# Altium integrated library WE-LQS SMD Power Inductor.IntLib: 97 symbols
Pins are listed as number, name and electrical type; pins without a type are passive.

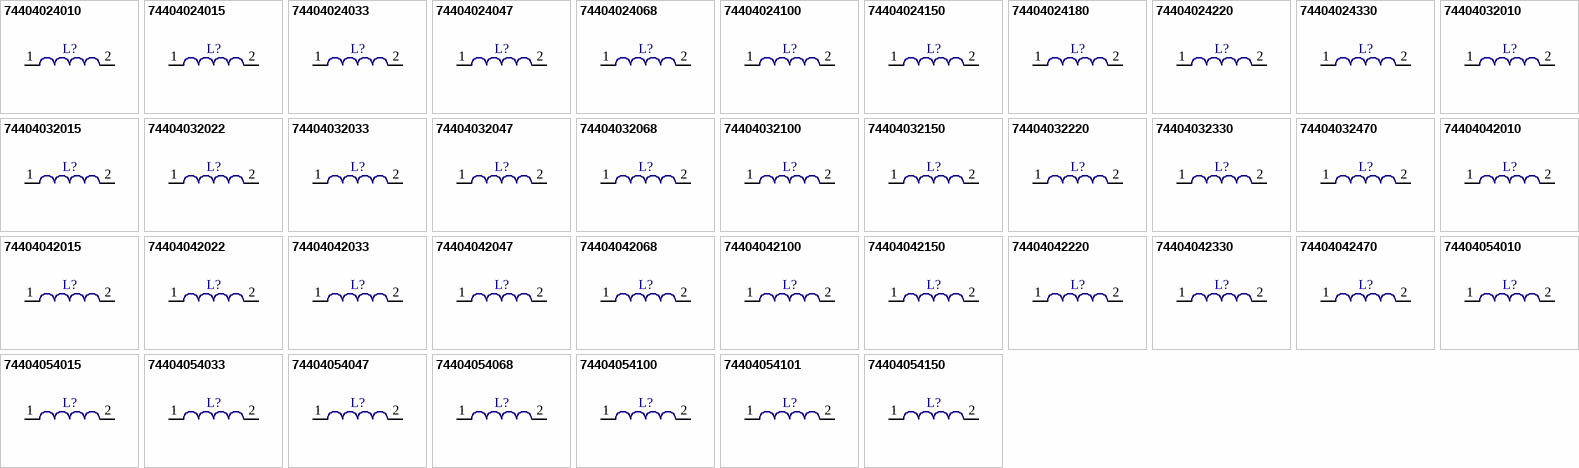
[diagram p0: symbols 74404024010 to 74404054150]

## 74404024010
designator L?
WE-LQS SMD Power Inductor, L=1.0 µH; PartNumber: 74404024010; Inductance: 1.0 µH; PackageReference: WE-LQS 252012; ComponentLink1Description: Manufacturer URL; ComponentLink1URL: http://www.we-online.com; ComponentLink2Description: Datasheet; ComponentLink2URL: http://katalog.we-online.de/pbs/datasheet/74404024010.pdf
footprint WE-LQS 252012 (SMD Power Inductor, 2-Leads, Body 2.5x2.0mm)
pins: 1, 2

## 74404024015
designator L?
WE-LQS SMD Power Inductor, L=1.5 µH; PartNumber: 74404024015; Inductance: 1.5 µH; PackageReference: WE-LQS 252012; ComponentLink1Description: Manufacturer URL; ComponentLink1URL: http://www.we-online.com; ComponentLink2Description: Datasheet; ComponentLink2URL: http://katalog.we-online.de/pbs/datasheet/74404024015.pdf
footprint WE-LQS 252012 (SMD Power Inductor, 2-Leads, Body 2.5x2.0mm)
pins: 1, 2

## 74404024033
designator L?
WE-LQS SMD Power Inductor, L=3.3 µH; PartNumber: 74404024033; Inductance: 3.3 µH; PackageReference: WE-LQS 252012; ComponentLink1Description: Manufacturer URL; ComponentLink1URL: http://www.we-online.com; ComponentLink2Description: Datasheet; ComponentLink2URL: http://katalog.we-online.de/pbs/datasheet/74404024033.pdf
footprint WE-LQS 252012 (SMD Power Inductor, 2-Leads, Body 2.5x2.0mm)
pins: 1, 2

## 74404024047
designator L?
WE-LQS SMD Power Inductor, L=4.7 µH; PartNumber: 74404024047; Inductance: 4.7 µH; PackageReference: WE-LQS 252012; ComponentLink1Description: Manufacturer URL; ComponentLink1URL: http://www.we-online.com; ComponentLink2Description: Datasheet; ComponentLink2URL: http://katalog.we-online.de/pbs/datasheet/74404024047.pdf
footprint WE-LQS 252012 (SMD Power Inductor, 2-Leads, Body 2.5x2.0mm)
pins: 1, 2

## 74404024068
designator L?
WE-LQS SMD Power Inductor, L=6.8 µH; PartNumber: 74404024068; Inductance: 6.8 µH; PackageReference: WE-LQS 252012; ComponentLink1Description: Manufacturer URL; ComponentLink1URL: http://www.we-online.com; ComponentLink2Description: Datasheet; ComponentLink2URL: http://katalog.we-online.de/pbs/datasheet/74404024068.pdf
footprint WE-LQS 252012 (SMD Power Inductor, 2-Leads, Body 2.5x2.0mm)
pins: 1, 2

## 74404024100
designator L?
WE-LQS SMD Power Inductor, L=10.0 µH; PartNumber: 74404024100; Inductance: 10.0 µH; PackageReference: WE-LQS 252012; ComponentLink1Description: Manufacturer URL; ComponentLink1URL: http://www.we-online.com; ComponentLink2Description: Datasheet; ComponentLink2URL: http://katalog.we-online.de/pbs/datasheet/74404024100.pdf
footprint WE-LQS 252012 (SMD Power Inductor, 2-Leads, Body 2.5x2.0mm)
pins: 1, 2

## 74404024150
designator L?
WE-LQS SMD Power Inductor, L=15.0 µH; PartNumber: 74404024150; Inductance: 15.0 µH; PackageReference: WE-LQS 252012; ComponentLink1Description: Manufacturer URL; ComponentLink1URL: http://www.we-online.com; ComponentLink2Description: Datasheet; ComponentLink2URL: http://katalog.we-online.de/pbs/datasheet/74404024150.pdf
footprint WE-LQS 252012 (SMD Power Inductor, 2-Leads, Body 2.5x2.0mm)
pins: 1, 2

## 74404024180
designator L?
WE-LQS SMD Power Inductor, L=18.0 µH; PartNumber: 74404024180; Inductance: 18.0 µH; PackageReference: WE-LQS 252012; ComponentLink1Description: Manufacturer URL; ComponentLink1URL: http://www.we-online.com; ComponentLink2Description: Datasheet; ComponentLink2URL: http://katalog.we-online.de/pbs/datasheet/74404024180.pdf
footprint WE-LQS 252012 (SMD Power Inductor, 2-Leads, Body 2.5x2.0mm)
pins: 1, 2

## 74404024220
designator L?
WE-LQS SMD Power Inductor, L=22.0 µH; PartNumber: 74404024220; Inductance: 22.0 µH; PackageReference: WE-LQS 252012; ComponentLink1Description: Manufacturer URL; ComponentLink1URL: http://www.we-online.com; ComponentLink2Description: Datasheet; ComponentLink2URL: http://katalog.we-online.de/pbs/datasheet/74404024220.pdf
footprint WE-LQS 252012 (SMD Power Inductor, 2-Leads, Body 2.5x2.0mm)
pins: 1, 2

## 74404024330
designator L?
WE-LQS SMD Power Inductor, L=33.0 µH; PartNumber: 74404024330; Inductance: 33.0 µH; PackageReference: WE-LQS 252012; ComponentLink1Description: Manufacturer URL; ComponentLink1URL: http://www.we-online.com; ComponentLink2Description: Datasheet; ComponentLink2URL: http://katalog.we-online.de/pbs/datasheet/74404024330.pdf
footprint WE-LQS 252012 (SMD Power Inductor, 2-Leads, Body 2.5x2.0mm)
pins: 1, 2

## 74404032010
designator L?
WE-LQS SMD Power Inductor, L=1.0 µH; PartNumber: 74404032010; Inductance: 1.0 µH; PackageReference: WE-LQS 3015; ComponentLink1Description: Manufacturer URL; ComponentLink1URL: http://www.we-online.com; ComponentLink2Description: Datasheet; ComponentLink2URL: http://katalog.we-online.de/pbs/datasheet/74404032010.pdf
footprint WE-LQS 3015 (SMD Power Inductor, 2-Leads, Body 3.0x3.0mm)
pins: 1, 2

## 74404032015
designator L?
WE-LQS SMD Power Inductor, L=1.5 µH; PartNumber: 74404032015; Inductance: 1.5 µH; PackageReference: WE-LQS 3015; ComponentLink1Description: Manufacturer URL; ComponentLink1URL: http://www.we-online.com; ComponentLink2Description: Datasheet; ComponentLink2URL: http://katalog.we-online.de/pbs/datasheet/74404032015.pdf
footprint WE-LQS 3015 (SMD Power Inductor, 2-Leads, Body 3.0x3.0mm)
pins: 1, 2

## 74404032022
designator L?
WE-LQS SMD Power Inductor, L=2.2 µH; PartNumber: 74404032022; Inductance: 2.2 µH; PackageReference: WE-LQS 3015; ComponentLink1Description: Manufacturer URL; ComponentLink1URL: http://www.we-online.com; ComponentLink2Description: Datasheet; ComponentLink2URL: http://katalog.we-online.de/pbs/datasheet/74404032022.pdf
footprint WE-LQS 3015 (SMD Power Inductor, 2-Leads, Body 3.0x3.0mm)
pins: 1, 2

## 74404032033
designator L?
WE-LQS SMD Power Inductor, L=3.3 µH; PartNumber: 74404032033; Inductance: 3.3 µH; PackageReference: WE-LQS 3015; ComponentLink1Description: Manufacturer URL; ComponentLink1URL: http://www.we-online.com; ComponentLink2Description: Datasheet; ComponentLink2URL: http://katalog.we-online.de/pbs/datasheet/74404032033.pdf
footprint WE-LQS 3015 (SMD Power Inductor, 2-Leads, Body 3.0x3.0mm)
pins: 1, 2

## 74404032047
designator L?
WE-LQS SMD Power Inductor, L=4.7 µH; PartNumber: 74404032047; Inductance: 4.7 µH; PackageReference: WE-LQS 3015; ComponentLink1Description: Manufacturer URL; ComponentLink1URL: http://www.we-online.com; ComponentLink2Description: Datasheet; ComponentLink2URL: http://katalog.we-online.de/pbs/datasheet/74404032047.pdf
footprint WE-LQS 3015 (SMD Power Inductor, 2-Leads, Body 3.0x3.0mm)
pins: 1, 2

## 74404032068
designator L?
WE-LQS SMD Power Inductor, L=6.8 µH; PartNumber: 74404032068; Inductance: 6.8 µH; PackageReference: WE-LQS 3015; ComponentLink1Description: Manufacturer URL; ComponentLink1URL: http://www.we-online.com; ComponentLink2Description: Datasheet; ComponentLink2URL: http://katalog.we-online.de/pbs/datasheet/74404032068.pdf
footprint WE-LQS 3015 (SMD Power Inductor, 2-Leads, Body 3.0x3.0mm)
pins: 1, 2

## 74404032100
designator L?
WE-LQS SMD Power Inductor, L=10 µH; PartNumber: 74404032100; Inductance: 10 µH; PackageReference: WE-LQS 3015; ComponentLink1Description: Manufacturer URL; ComponentLink1URL: http://www.we-online.com; ComponentLink2Description: Datasheet; ComponentLink2URL: http://katalog.we-online.de/pbs/datasheet/74404032100.pdf
footprint WE-LQS 3015 (SMD Power Inductor, 2-Leads, Body 3.0x3.0mm)
pins: 1, 2

## 74404032150
designator L?
WE-LQS SMD Power Inductor, L=15 µH; PartNumber: 74404032150; Inductance: 15 µH; PackageReference: WE-LQS 3015; ComponentLink1Description: Manufacturer URL; ComponentLink1URL: http://www.we-online.com; ComponentLink2Description: Datasheet; ComponentLink2URL: http://katalog.we-online.de/pbs/datasheet/74404032150.pdf
footprint WE-LQS 3015 (SMD Power Inductor, 2-Leads, Body 3.0x3.0mm)
pins: 1, 2

## 74404032220
designator L?
WE-LQS SMD Power Inductor, L=22 µH; PartNumber: 74404032220; Inductance: 22 µH; PackageReference: WE-LQS 3015; ComponentLink1Description: Manufacturer URL; ComponentLink1URL: http://www.we-online.com; ComponentLink2Description: Datasheet; ComponentLink2URL: http://katalog.we-online.de/pbs/datasheet/74404032220.pdf
footprint WE-LQS 3015 (SMD Power Inductor, 2-Leads, Body 3.0x3.0mm)
pins: 1, 2

## 74404032330
designator L?
WE-LQS SMD Power Inductor, L=33 µH; PartNumber: 74404032330; Inductance: 33 µH; PackageReference: WE-LQS 3015; ComponentLink1Description: Manufacturer URL; ComponentLink1URL: http://www.we-online.com; ComponentLink2Description: Datasheet; ComponentLink2URL: http://katalog.we-online.de/pbs/datasheet/74404032330.pdf
footprint WE-LQS 3015 (SMD Power Inductor, 2-Leads, Body 3.0x3.0mm)
pins: 1, 2

## 74404032470
designator L?
WE-LQS SMD Power Inductor, L=47 µH; PartNumber: 74404032470; Inductance: 47 µH; PackageReference: WE-LQS 3015; ComponentLink1Description: Manufacturer URL; ComponentLink1URL: http://www.we-online.com; ComponentLink2Description: Datasheet; ComponentLink2URL: http://katalog.we-online.de/pbs/datasheet/74404032470.pdf
footprint WE-LQS 3015 (SMD Power Inductor, 2-Leads, Body 3.0x3.0mm)
pins: 1, 2

## 74404042010
designator L?
WE-LQS SMD Power Inductor, L=1.0 µH; PartNumber: 74404042010; Inductance: 1.0 µH; PackageReference: WE-LQS 4018; ComponentLink1Description: Manufacturer URL; ComponentLink1URL: http://www.we-online.com; ComponentLink2Description: Datasheet; ComponentLink2URL: http://katalog.we-online.de/pbs/datasheet/74404042010.pdf
footprint WE-LQS 4018 (SMD Power Inductor, 2-Leads, Body 4.0x4.0mm)
pins: 1, 2

## 74404042015
designator L?
WE-LQS SMD Power Inductor, L=1.5 µH; PartNumber: 74404042015; Inductance: 1.5 µH; PackageReference: WE-LQS 4018; ComponentLink1Description: Manufacturer URL; ComponentLink1URL: http://www.we-online.com; ComponentLink2Description: Datasheet; ComponentLink2URL: http://katalog.we-online.de/pbs/datasheet/74404042015.pdf
footprint WE-LQS 4018 (SMD Power Inductor, 2-Leads, Body 4.0x4.0mm)
pins: 1, 2

## 74404042022
designator L?
WE-LQS SMD Power Inductor, L=2.2 µH; PartNumber: 74404042022; Inductance: 2.2 µH; PackageReference: WE-LQS 4018; ComponentLink1Description: Manufacturer URL; ComponentLink1URL: http://www.we-online.com; ComponentLink2Description: Datasheet; ComponentLink2URL: http://katalog.we-online.de/pbs/datasheet/74404042022.pdf
footprint WE-LQS 4018 (SMD Power Inductor, 2-Leads, Body 4.0x4.0mm)
pins: 1, 2

## 74404042033
designator L?
WE-LQS SMD Power Inductor, L=3.3 µH; PartNumber: 74404042033; Inductance: 3.3 µH; PackageReference: WE-LQS 4018; ComponentLink1Description: Manufacturer URL; ComponentLink1URL: http://www.we-online.com; ComponentLink2Description: Datasheet; ComponentLink2URL: http://katalog.we-online.de/pbs/datasheet/74404042033.pdf
footprint WE-LQS 4018 (SMD Power Inductor, 2-Leads, Body 4.0x4.0mm)
pins: 1, 2

## 74404042047
designator L?
WE-LQS SMD Power Inductor, L=4.7 µH; PartNumber: 74404042047; Inductance: 4.7 µH; PackageReference: WE-LQS 4018; ComponentLink1Description: Manufacturer URL; ComponentLink1URL: http://www.we-online.com; ComponentLink2Description: Datasheet; ComponentLink2URL: http://katalog.we-online.de/pbs/datasheet/74404042047.pdf
footprint WE-LQS 4018 (SMD Power Inductor, 2-Leads, Body 4.0x4.0mm)
pins: 1, 2

## 74404042068
designator L?
WE-LQS SMD Power Inductor, L=6.8 µH; PartNumber: 74404042068; Inductance: 6.8 µH; PackageReference: WE-LQS 4018; ComponentLink1Description: Manufacturer URL; ComponentLink1URL: http://www.we-online.com; ComponentLink2Description: Datasheet; ComponentLink2URL: http://katalog.we-online.de/pbs/datasheet/74404042068.pdf
footprint WE-LQS 4018 (SMD Power Inductor, 2-Leads, Body 4.0x4.0mm)
pins: 1, 2

## 74404042100
designator L?
WE-LQS SMD Power Inductor, L=10 µH; PartNumber: 74404042100; Inductance: 10 µH; PackageReference: WE-LQS 4018; ComponentLink1Description: Manufacturer URL; ComponentLink1URL: http://www.we-online.com; ComponentLink2Description: Datasheet; ComponentLink2URL: http://katalog.we-online.de/pbs/datasheet/74404042100.pdf
footprint WE-LQS 4018 (SMD Power Inductor, 2-Leads, Body 4.0x4.0mm)
pins: 1, 2

## 74404042150
designator L?
WE-LQS SMD Power Inductor, L=15 µH; PartNumber: 74404042150; Inductance: 15 µH; PackageReference: WE-LQS 4018; ComponentLink1Description: Manufacturer URL; ComponentLink1URL: http://www.we-online.com; ComponentLink2Description: Datasheet; ComponentLink2URL: http://katalog.we-online.de/pbs/datasheet/74404042150.pdf
footprint WE-LQS 4018 (SMD Power Inductor, 2-Leads, Body 4.0x4.0mm)
pins: 1, 2

## 74404042220
designator L?
WE-LQS SMD Power Inductor, L=22 µH; PartNumber: 74404042220; Inductance: 22 µH; PackageReference: WE-LQS 4018; ComponentLink1Description: Manufacturer URL; ComponentLink1URL: http://www.we-online.com; ComponentLink2Description: Datasheet; ComponentLink2URL: http://katalog.we-online.de/pbs/datasheet/74404042220.pdf
footprint WE-LQS 4018 (SMD Power Inductor, 2-Leads, Body 4.0x4.0mm)
pins: 1, 2

## 74404042330
designator L?
WE-LQS SMD Power Inductor, L=33 µH; PartNumber: 74404042330; Inductance: 33 µH; PackageReference: WE-LQS 4018; ComponentLink1Description: Manufacturer URL; ComponentLink1URL: http://www.we-online.com; ComponentLink2Description: Datasheet; ComponentLink2URL: http://katalog.we-online.de/pbs/datasheet/74404042330.pdf
footprint WE-LQS 4018 (SMD Power Inductor, 2-Leads, Body 4.0x4.0mm)
pins: 1, 2

## 74404042470
designator L?
WE-LQS SMD Power Inductor, L=47 µH; PartNumber: 74404042470; Inductance: 47 µH; PackageReference: WE-LQS 4018; ComponentLink1Description: Manufacturer URL; ComponentLink1URL: http://www.we-online.com; ComponentLink2Description: Datasheet; ComponentLink2URL: http://katalog.we-online.de/pbs/datasheet/74404042470.pdf
footprint WE-LQS 4018 (SMD Power Inductor, 2-Leads, Body 4.0x4.0mm)
pins: 1, 2

## 74404054010
designator L?
WE-LQS SMD Power Inductor, L=1.0 µH; PartNumber: 74404054010; Inductance: 1.0 µH; PackageReference: WE-LQS 5040; ComponentLink1Description: Manufacturer URL; ComponentLink1URL: http://www.we-online.com; ComponentLink2Description: Datasheet; ComponentLink2URL: http://katalog.we-online.de/pbs/datasheet/74404054010.pdf
footprint WE-LQS 5040 (SMD Power Inductor, 2-Leads, Body 5.0x5.0mm)
pins: 1, 2

## 74404054015
designator L?
WE-LQS SMD Power Inductor, L=1.5 µH; PartNumber: 74404054015; Inductance: 1.5 µH; PackageReference: WE-LQS 5040; ComponentLink1Description: Manufacturer URL; ComponentLink1URL: http://www.we-online.com; ComponentLink2Description: Datasheet; ComponentLink2URL: http://katalog.we-online.de/pbs/datasheet/74404054015.pdf
footprint WE-LQS 5040 (SMD Power Inductor, 2-Leads, Body 5.0x5.0mm)
pins: 1, 2

## 74404054033
designator L?
WE-LQS SMD Power Inductor, L=3.3  µH; PartNumber: 74404054033; Inductance: 3.3 µH; PackageReference: WE-LQS 5040; ComponentLink1Description: Manufacturer URL; ComponentLink1URL: http://www.we-online.com; ComponentLink2Description: Datasheet; ComponentLink2URL: http://katalog.we-online.de/pbs/datasheet/74404054033.pdf
footprint WE-LQS 5040 (SMD Power Inductor, 2-Leads, Body 5.0x5.0mm)
pins: 1, 2

## 74404054047
designator L?
WE-LQS SMD Power Inductor, L=4.7 µH; PartNumber: 74404054047; Inductance: 4.7 µH; PackageReference: WE-LQS 5040; ComponentLink1Description: Manufacturer URL; ComponentLink1URL: http://www.we-online.com; ComponentLink2Description: Datasheet; ComponentLink2URL: http://katalog.we-online.de/pbs/datasheet/74404054047.pdf
footprint WE-LQS 5040 (SMD Power Inductor, 2-Leads, Body 5.0x5.0mm)
pins: 1, 2

## 74404054068
designator L?
WE-LQS SMD Power Inductor, L=6.8 µH; PartNumber: 74404054068; Inductance: 6.8 µH; PackageReference: WE-LQS 5040; ComponentLink1Description: Manufacturer URL; ComponentLink1URL: http://www.we-online.com; ComponentLink2Description: Datasheet; ComponentLink2URL: http://katalog.we-online.de/pbs/datasheet/74404054068.pdf
footprint WE-LQS 5040 (SMD Power Inductor, 2-Leads, Body 5.0x5.0mm)
pins: 1, 2

## 74404054100
designator L?
WE-LQS SMD Power Inductor, L=10.0 µH; PartNumber: 74404054100; Inductance: 10.0 µH; PackageReference: WE-LQS 5040; ComponentLink1Description: Manufacturer URL; ComponentLink1URL: http://www.we-online.com; ComponentLink2Description: Datasheet; ComponentLink2URL: http://katalog.we-online.de/pbs/datasheet/74404054100.pdf
footprint WE-LQS 5040 (SMD Power Inductor, 2-Leads, Body 5.0x5.0mm)
pins: 1, 2

## 74404054101
designator L?
WE-LQS SMD Power Inductor, L=100.0 µH; PartNumber: 74404054101; PackageReference: WE-LQS 5040; Inductance: 100.0 µH; ComponentLink1Description: Manufacturer URL; ComponentLink1URL: http://www.we-online.com; ComponentLink2Description: Datasheet; ComponentLink2URL: http://katalog.we-online.de/pbs/datasheet/74404054101.pdf
footprint WE-LQS 5040 (SMD Power Inductor, 2-Leads, Body 5.0x5.0mm)
pins: 1, 2

## 74404054150
designator L?
WE-LQS SMD Power Inductor, L=15.0 µH; PartNumber: 74404054150; Inductance: 15.0 µH; PackageReference: WE-LQS 5040; ComponentLink1Description: Manufacturer URL; ComponentLink1URL: http://www.we-online.com; ComponentLink2Description: Datasheet; ComponentLink2URL: http://katalog.we-online.de/pbs/datasheet/74404054150.pdf
footprint WE-LQS 5040 (SMD Power Inductor, 2-Leads, Body 5.0x5.0mm)
pins: 1, 2

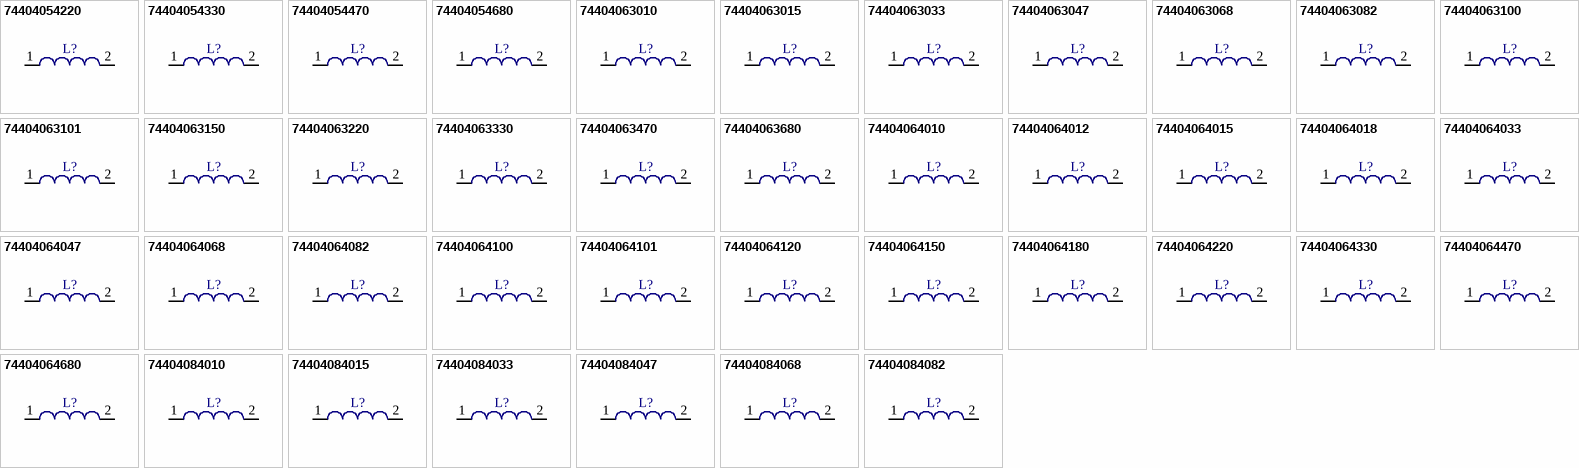
[diagram p1: symbols 74404054220 to 74404084082]

## 74404054220
designator L?
WE-LQS SMD Power Inductor, L=22.0 µH; PartNumber: 74404054220; Inductance: 22.0 µH; PackageReference: WE-LQS 5040; ComponentLink1Description: Manufacturer URL; ComponentLink1URL: http://www.we-online.com; ComponentLink2Description: Datasheet; ComponentLink2URL: http://katalog.we-online.de/pbs/datasheet/74404054220.pdf
footprint WE-LQS 5040 (SMD Power Inductor, 2-Leads, Body 5.0x5.0mm)
pins: 1, 2

## 74404054330
designator L?
WE-LQS SMD Power Inductor, L=33.0 µH; PartNumber: 74404054330; Inductance: 33.0 µH; PackageReference: WE-LQS 5040; ComponentLink1Description: Manufacturer URL; ComponentLink1URL: http://www.we-online.com; ComponentLink2Description: Datasheet; ComponentLink2URL: http://katalog.we-online.de/pbs/datasheet/74404054330.pdf
footprint WE-LQS 5040 (SMD Power Inductor, 2-Leads, Body 5.0x5.0mm)
pins: 1, 2

## 74404054470
designator L?
WE-LQS SMD Power Inductor, L=47.0 µH; PartNumber: 74404054470; Inductance: 47.0 µH; PackageReference: WE-LQS 5040; ComponentLink1Description: Manufacturer URL; ComponentLink1URL: http://www.we-online.com; ComponentLink2Description: Datasheet; ComponentLink2URL: http://katalog.we-online.de/pbs/datasheet/74404054470.pdf
footprint WE-LQS 5040 (SMD Power Inductor, 2-Leads, Body 5.0x5.0mm)
pins: 1, 2

## 74404054680
designator L?
WE-LQS SMD Power Inductor, L=68.0  µH; PartNumber: 74404054680; Inductance: 68.0 µH; PackageReference: WE-LQS 5040; ComponentLink1Description: Manufacturer URL; ComponentLink1URL: http://www.we-online.com; ComponentLink2Description: Datasheet; ComponentLink2URL: http://katalog.we-online.de/pbs/datasheet/74404054680.pdf
footprint WE-LQS 5040 (SMD Power Inductor, 2-Leads, Body 5.0x5.0mm)
pins: 1, 2

## 74404063010
designator L?
WE-LQS SMD Power Inductor, L=1.0 µH; PartNumber: 74404063010; Inductance: 1.0 µH; PackageReference: WE-LQS 6028; ComponentLink1Description: Manufacturer URL; ComponentLink1URL: http://www.we-online.com; ComponentLink2Description: Datasheet; ComponentLink2URL: http://katalog.we-online.de/pbs/datasheet/74404063010.pdf
footprint WE-LQS 6028 (SMD Power Inductor, 2-Leads, Body 6.0x6.0mm)
pins: 1, 2

## 74404063015
designator L?
WE-LQS SMD Power Inductor, L=1.5  µH; PartNumber: 74404063015; Inductance: 1.5 µH; PackageReference: WE-LQS 6028; ComponentLink1Description: Manufacturer URL; ComponentLink1URL: http://www.we-online.com; ComponentLink2Description: Datasheet; ComponentLink2URL: http://katalog.we-online.de/pbs/datasheet/74404063015.pdf
footprint WE-LQS 6028 (SMD Power Inductor, 2-Leads, Body 6.0x6.0mm)
pins: 1, 2

## 74404063033
designator L?
WE-LQS SMD Power Inductor, L=3.3 µH; PartNumber: 74404063033; Inductance: 3.3 µH; PackageReference: WE-LQS 6028; ComponentLink1Description: Manufacturer URL; ComponentLink1URL: http://www.we-online.com; ComponentLink2Description: Datasheet; ComponentLink2URL: http://katalog.we-online.de/pbs/datasheet/74404063033.pdf
footprint WE-LQS 6028 (SMD Power Inductor, 2-Leads, Body 6.0x6.0mm)
pins: 1, 2

## 74404063047
designator L?
WE-LQS SMD Power Inductor, L=4.7 µH; PartNumber: 74404063047; Inductance: 4.7 µH; PackageReference: WE-LQS 6028; ComponentLink1Description: Manufacturer URL; ComponentLink1URL: http://www.we-online.com; ComponentLink2Description: Datasheet; ComponentLink2URL: http://katalog.we-online.de/pbs/datasheet/74404063047.pdf
footprint WE-LQS 6028 (SMD Power Inductor, 2-Leads, Body 6.0x6.0mm)
pins: 1, 2

## 74404063068
designator L?
WE-LQS SMD Power Inductor, L=6.8 µH; PartNumber: 74404063068; Inductance: 6.8 µH; PackageReference: WE-LQS 6028; ComponentLink1Description: Manufacturer URL; ComponentLink1URL: http://www.we-online.com; ComponentLink2Description: Datasheet; ComponentLink2URL: http://katalog.we-online.de/pbs/datasheet/74404063068.pdf
footprint WE-LQS 6028 (SMD Power Inductor, 2-Leads, Body 6.0x6.0mm)
pins: 1, 2

## 74404063082
designator L?
WE-LQS SMD Power Inductor, L=8.2 µH; PartNumber: 74404063082; Inductance: 8.2 µH; PackageReference: WE-LQS 6028; ComponentLink1Description: Manufacturer URL; ComponentLink1URL: http://www.we-online.com; ComponentLink2Description: Datasheet; ComponentLink2URL: http://katalog.we-online.de/pbs/datasheet/74404063082.pdf
footprint WE-LQS 6028 (SMD Power Inductor, 2-Leads, Body 6.0x6.0mm)
pins: 1, 2

## 74404063100
designator L?
WE-LQS SMD Power Inductor, L=10.0 µH; PartNumber: 74404063100; Inductance: 10.0 µH; PackageReference: WE-LQS 6028; ComponentLink1Description: Manufacturer URL; ComponentLink1URL: http://www.we-online.com; ComponentLink2Description: Datasheet; ComponentLink2URL: http://katalog.we-online.de/pbs/datasheet/74404063100.pdf
footprint WE-LQS 6028 (SMD Power Inductor, 2-Leads, Body 6.0x6.0mm)
pins: 1, 2

## 74404063101
designator L?
WE-LQS SMD Power Inductor, L=100.0 µH; PartNumber: 74404063101; PackageReference: WE-LQS 6028; Inductance: 100.0 µH; ComponentLink1Description: Manufacturer URL; ComponentLink1URL: http://www.we-online.com; ComponentLink2Description: Datasheet; ComponentLink2URL: http://katalog.we-online.de/pbs/datasheet/74404063101.pdf
footprint WE-LQS 6028 (SMD Power Inductor, 2-Leads, Body 6.0x6.0mm)
pins: 1, 2

## 74404063150
designator L?
WE-LQS SMD Power Inductor, L=15.0 µH; PartNumber: 74404063150; Inductance: 15.0 µH; PackageReference: WE-LQS 6028; ComponentLink1Description: Manufacturer URL; ComponentLink1URL: http://www.we-online.com; ComponentLink2Description: Datasheet; ComponentLink2URL: http://katalog.we-online.de/pbs/datasheet/74404063150.pdf
footprint WE-LQS 6028 (SMD Power Inductor, 2-Leads, Body 6.0x6.0mm)
pins: 1, 2

## 74404063220
designator L?
WE-LQS SMD Power Inductor, L=22.0 µH; PartNumber: 74404063220; Inductance: 22.0 µH; PackageReference: WE-LQS 6028; ComponentLink1Description: Manufacturer URL; ComponentLink1URL: http://www.we-online.com; ComponentLink2Description: Datasheet; ComponentLink2URL: http://katalog.we-online.de/pbs/datasheet/74404063220.pdf
footprint WE-LQS 6028 (SMD Power Inductor, 2-Leads, Body 6.0x6.0mm)
pins: 1, 2

## 74404063330
designator L?
WE-LQS SMD Power Inductor, L=33.0 µH; PartNumber: 74404063330; Inductance: 33.0 µH; PackageReference: WE-LQS 6028; ComponentLink1Description: Manufacturer URL; ComponentLink1URL: http://www.we-online.com; ComponentLink2Description: Datasheet; ComponentLink2URL: http://katalog.we-online.de/pbs/datasheet/74404063330.pdf
footprint WE-LQS 6028 (SMD Power Inductor, 2-Leads, Body 6.0x6.0mm)
pins: 1, 2

## 74404063470
designator L?
WE-LQS SMD Power Inductor, L=47.0 µH; PartNumber: 74404063470; Inductance: 47.0 µH; PackageReference: WE-LQS 6028; ComponentLink1Description: Manufacturer URL; ComponentLink1URL: http://www.we-online.com; ComponentLink2Description: Datasheet; ComponentLink2URL: http://katalog.we-online.de/pbs/datasheet/74404063470.pdf
footprint WE-LQS 6028 (SMD Power Inductor, 2-Leads, Body 6.0x6.0mm)
pins: 1, 2

## 74404063680
designator L?
WE-LQS SMD Power Inductor, L=68.0 µH; PartNumber: 74404063680; Inductance: 68.0 µH; PackageReference: WE-LQS 6028; ComponentLink1Description: Manufacturer URL; ComponentLink1URL: http://www.we-online.com; ComponentLink2Description: Datasheet; ComponentLink2URL: http://katalog.we-online.de/pbs/datasheet/74404063680.pdf
footprint WE-LQS 6028 (SMD Power Inductor, 2-Leads, Body 6.0x6.0mm)
pins: 1, 2

## 74404064010
designator L?
WE-LQS SMD Power Inductor, L=1.0¦ÌH; PartNumber: 74404064010; Inductance: 1.0; Note: ÌH; PackageReference: WE-LQS 6045; ComponentLink1Description: Manufacturer URL; ComponentLink1URL: http://www.we-online.com; ComponentLink2Description: Datasheet; ComponentLink2URL: http://katalog.we-online.de/pbs/datasheet/74404064010.pdf
footprint WE-LQS 6045 (SMD Power Inductor, 2-Leads, Body 6.0x6.0mm)
pins: 1, 2

## 74404064012
designator L?
WE-LQS SMD Power Inductor, L=1.2¦ÌH; PartNumber: 74404064012; Inductance: 1.2; Note: ÌH; PackageReference: WE-LQS 6045; ComponentLink1Description: Manufacturer URL; ComponentLink1URL: http://www.we-online.com; ComponentLink2Description: Datasheet; ComponentLink2URL: http://katalog.we-online.de/pbs/datasheet/74404064012.pdf
footprint WE-LQS 6045 (SMD Power Inductor, 2-Leads, Body 6.0x6.0mm)
pins: 1, 2

## 74404064015
designator L?
WE-LQS SMD Power Inductor, L=1.5 ¦ÌH; PartNumber: 74404064015; Inductance: 1.5; Note: ÌH; PackageReference: WE-LQS 6045; ComponentLink1Description: Manufacturer URL; ComponentLink1URL: http://www.we-online.com; ComponentLink2Description: Datasheet; ComponentLink2URL: http://katalog.we-online.de/pbs/datasheet/74404064015.pdf
footprint WE-LQS 6045 (SMD Power Inductor, 2-Leads, Body 6.0x6.0mm)
pins: 1, 2

## 74404064018
designator L?
WE-LQS SMD Power Inductor, L=1.8 µH; PartNumber: 74404064018; Inductance: 1.8 µH; PackageReference: WE-LQS 6045; ComponentLink1Description: Manufacturer URL; ComponentLink1URL: http://www.we-online.com; ComponentLink2Description: Datasheet; ComponentLink2URL: http://katalog.we-online.de/pbs/datasheet/74404064018.pdf
footprint WE-LQS 6045 (SMD Power Inductor, 2-Leads, Body 6.0x6.0mm)
pins: 1, 2

## 74404064033
designator L?
WE-LQS SMD Power Inductor, L=3.3 µH; PartNumber: 74404064033; Inductance: 3.3 µH; PackageReference: WE-LQS 6045; ComponentLink1Description: Manufacturer URL; ComponentLink1URL: http://www.we-online.com; ComponentLink2Description: Datasheet; ComponentLink2URL: http://katalog.we-online.de/pbs/datasheet/74404064033.pdf
footprint WE-LQS 6045 (SMD Power Inductor, 2-Leads, Body 6.0x6.0mm)
pins: 1, 2

## 74404064047
designator L?
WE-LQS SMD Power Inductor, L=4.7 µH; PartNumber: 74404064047; Inductance: 4.7 µH; PackageReference: WE-LQS 6045; ComponentLink1Description: Manufacturer URL; ComponentLink1URL: http://www.we-online.com; ComponentLink2Description: Datasheet; ComponentLink2URL: http://katalog.we-online.de/pbs/datasheet/74404064047.pdf
footprint WE-LQS 6045 (SMD Power Inductor, 2-Leads, Body 6.0x6.0mm)
pins: 1, 2

## 74404064068
designator L?
WE-LQS SMD Power Inductor, L=6.8 µH; PartNumber: 74404064068; Inductance: 6.8 µH; PackageReference: WE-LQS 6045; ComponentLink1Description: Manufacturer URL; ComponentLink1URL: http://www.we-online.com; ComponentLink2Description: Datasheet; ComponentLink2URL: http://katalog.we-online.de/pbs/datasheet/74404064068.pdf
footprint WE-LQS 6045 (SMD Power Inductor, 2-Leads, Body 6.0x6.0mm)
pins: 1, 2

## 74404064082
designator L?
WE-LQS SMD Power Inductor, L=8.2 µH; PartNumber: 74404064082; Inductance: 8.2 µH; PackageReference: WE-LQS 6045; ComponentLink1Description: Manufacturer URL; ComponentLink1URL: http://www.we-online.com; ComponentLink2Description: Datasheet; ComponentLink2URL: http://katalog.we-online.de/pbs/datasheet/74404064082.pdf
footprint WE-LQS 6045 (SMD Power Inductor, 2-Leads, Body 6.0x6.0mm)
pins: 1, 2

## 74404064100
designator L?
WE-LQS SMD Power Inductor, L=10.0 µH; PartNumber: 74404064100; Inductance: 10.0 µH; PackageReference: WE-LQS 6045; ComponentLink1Description: Manufacturer URL; ComponentLink1URL: http://www.we-online.com; ComponentLink2Description: Datasheet; ComponentLink2URL: http://katalog.we-online.de/pbs/datasheet/74404064100.pdf
footprint WE-LQS 6045 (SMD Power Inductor, 2-Leads, Body 6.0x6.0mm)
pins: 1, 2

## 74404064101
designator L?
WE-LQS SMD Power Inductor, L=100.0 µH; PartNumber: 74404064101; PackageReference: WE-LQS 6045; Inductance: 100.0 µH; ComponentLink1Description: Manufacturer URL; ComponentLink1URL: http://www.we-online.com; ComponentLink2Description: Datasheet; ComponentLink2URL: http://katalog.we-online.de/pbs/datasheet/74404064101.pdf
footprint WE-LQS 6045 (SMD Power Inductor, 2-Leads, Body 6.0x6.0mm)
pins: 1, 2

## 74404064120
designator L?
WE-LQS SMD Power Inductor, L=12.0 µH; PartNumber: 74404064120; Inductance: 12.0 µH; PackageReference: WE-LQS 6045; ComponentLink1Description: Manufacturer URL; ComponentLink1URL: http://www.we-online.com; ComponentLink2Description: Datasheet; ComponentLink2URL: http://katalog.we-online.de/pbs/datasheet/74404064120.pdf
footprint WE-LQS 6045 (SMD Power Inductor, 2-Leads, Body 6.0x6.0mm)
pins: 1, 2

## 74404064150
designator L?
WE-LQS SMD Power Inductor, L=15.0 µH; PartNumber: 74404064150; Inductance: 15.0 µH; PackageReference: WE-LQS 6045; ComponentLink1Description: Manufacturer URL; ComponentLink1URL: http://www.we-online.com; ComponentLink2Description: Datasheet; ComponentLink2URL: http://katalog.we-online.de/pbs/datasheet/74404064150.pdf
footprint WE-LQS 6045 (SMD Power Inductor, 2-Leads, Body 6.0x6.0mm)
pins: 1, 2

## 74404064180
designator L?
WE-LQS SMD Power Inductor, L=18.0 µH; PartNumber: 74404064180; Inductance: 18.0 µH; PackageReference: WE-LQS 6045; ComponentLink1Description: Manufacturer URL; ComponentLink1URL: http://www.we-online.com; ComponentLink2Description: Datasheet; ComponentLink2URL: http://katalog.we-online.de/pbs/datasheet/74404064180.pdf
footprint WE-LQS 6045 (SMD Power Inductor, 2-Leads, Body 6.0x6.0mm)
pins: 1, 2

## 74404064220
designator L?
WE-LQS SMD Power Inductor, L=22.0 µH; PartNumber: 74404064220; Inductance: 22.0 µH; PackageReference: WE-LQS 6045; ComponentLink1Description: Manufacturer URL; ComponentLink1URL: http://www.we-online.com; ComponentLink2Description: Datasheet; ComponentLink2URL: http://katalog.we-online.de/pbs/datasheet/74404064220.pdf
footprint WE-LQS 6045 (SMD Power Inductor, 2-Leads, Body 6.0x6.0mm)
pins: 1, 2

## 74404064330
designator L?
WE-LQS SMD Power Inductor, L=33.0 µH; PartNumber: 74404064330; Inductance: 33.0 µH; PackageReference: WE-LQS 6045; ComponentLink1Description: Manufacturer URL; ComponentLink1URL: http://www.we-online.com; ComponentLink2Description: Datasheet; ComponentLink2URL: http://katalog.we-online.de/pbs/datasheet/74404064330.pdf
footprint WE-LQS 6045 (SMD Power Inductor, 2-Leads, Body 6.0x6.0mm)
pins: 1, 2

## 74404064470
designator L?
WE-LQS SMD Power Inductor, L=47.0 µH; PartNumber: 74404064470; Inductance: 47.0 µH; PackageReference: WE-LQS 6045; ComponentLink1Description: Manufacturer URL; ComponentLink1URL: http://www.we-online.com; ComponentLink2Description: Datasheet; ComponentLink2URL: http://katalog.we-online.de/pbs/datasheet/74404064470.pdf
footprint WE-LQS 6045 (SMD Power Inductor, 2-Leads, Body 6.0x6.0mm)
pins: 1, 2

## 74404064680
designator L?
WE-LQS SMD Power Inductor, L=68.0 µH; PartNumber: 74404064680; Inductance: 68.0 µH; PackageReference: WE-LQS 6045; ComponentLink1Description: Manufacturer URL; ComponentLink1URL: http://www.we-online.com; ComponentLink2Description: Datasheet; ComponentLink2URL: http://katalog.we-online.de/pbs/datasheet/74404064680.pdf
footprint WE-LQS 6045 (SMD Power Inductor, 2-Leads, Body 6.0x6.0mm)
pins: 1, 2

## 74404084010
designator L?
WE-LQS SMD Power Inductor, L=1.0 µH; PartNumber: 74404084010; Inductance: 1.0 µH; PackageReference: WE-LQS 8040; ComponentLink1Description: Manufacturer URL; ComponentLink1URL: http://www.we-online.com; ComponentLink2Description: Datasheet; ComponentLink2URL: http://katalog.we-online.de/pbs/datasheet/74404084010.pdf
footprint WE-LQS 8040 (SMD Power Inductor, 2-Leads, Body 8.0x8.0mm)
pins: 1, 2

## 74404084015
designator L?
WE-LQS SMD Power Inductor, L=1.5 µH; PartNumber: 74404084015; Inductance: 1.5 µH; PackageReference: WE-LQS 8040; ComponentLink1Description: Manufacturer URL; ComponentLink1URL: http://www.we-online.com; ComponentLink2Description: Datasheet; ComponentLink2URL: http://katalog.we-online.de/pbs/datasheet/74404084015.pdf
footprint WE-LQS 8040 (SMD Power Inductor, 2-Leads, Body 8.0x8.0mm)
pins: 1, 2

## 74404084033
designator L?
WE-LQS SMD Power Inductor, L=3.3 µH; PartNumber: 74404084033; Inductance: 3.3 µH; PackageReference: WE-LQS 8040; ComponentLink1Description: Manufacturer URL; ComponentLink1URL: http://www.we-online.com; ComponentLink2Description: Datasheet; ComponentLink2URL: http://katalog.we-online.de/pbs/datasheet/74404084033.pdf
footprint WE-LQS 8040 (SMD Power Inductor, 2-Leads, Body 8.0x8.0mm)
pins: 1, 2

## 74404084047
designator L?
WE-LQS SMD Power Inductor, L=4.7 µH; PartNumber: 74404084047; Inductance: 4.7 µH; PackageReference: WE-LQS 8040; ComponentLink1Description: Manufacturer URL; ComponentLink1URL: http://www.we-online.com; ComponentLink2Description: Datasheet; ComponentLink2URL: http://katalog.we-online.de/pbs/datasheet/74404084047.pdf
footprint WE-LQS 8040 (SMD Power Inductor, 2-Leads, Body 8.0x8.0mm)
pins: 1, 2

## 74404084068
designator L?
WE-LQS SMD Power Inductor, L=6.8 µH; PartNumber: 74404084068; Inductance: 6.8 µH; PackageReference: WE-LQS 8040; ComponentLink1Description: Manufacturer URL; ComponentLink1URL: http://www.we-online.com; ComponentLink2Description: Datasheet; ComponentLink2URL: http://katalog.we-online.de/pbs/datasheet/74404084068.pdf
footprint WE-LQS 8040 (SMD Power Inductor, 2-Leads, Body 8.0x8.0mm)
pins: 1, 2

## 74404084082
designator L?
WE-LQS SMD Power Inductor, L=8.2 µH; PartNumber: 74404084082; Inductance: 8.2 µH; PackageReference: WE-LQS 8040; ComponentLink1Description: Manufacturer URL; ComponentLink1URL: http://www.we-online.com; ComponentLink2Description: Datasheet; ComponentLink2URL: http://katalog.we-online.de/pbs/datasheet/74404084082.pdf
footprint WE-LQS 8040 (SMD Power Inductor, 2-Leads, Body 8.0x8.0mm)
pins: 1, 2

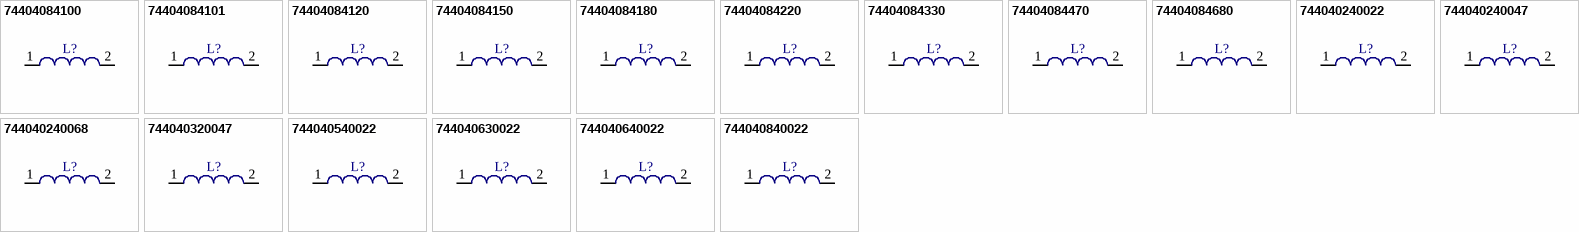
[diagram p2: symbols 74404084100 to 744040840022]

## 74404084100
designator L?
WE-LQS SMD Power Inductor, L=10.0 µH; PartNumber: 74404084100; Inductance: 10.0 µH; PackageReference: WE-LQS 8040; ComponentLink1Description: Manufacturer URL; ComponentLink1URL: http://www.we-online.com; ComponentLink2Description: Datasheet; ComponentLink2URL: http://katalog.we-online.de/pbs/datasheet/74404084100.pdf
footprint WE-LQS 8040 (SMD Power Inductor, 2-Leads, Body 8.0x8.0mm)
pins: 1, 2

## 74404084101
designator L?
WE-LQS SMD Power Inductor, L=100.0 µH; PartNumber: 74404084101; PackageReference: WE-LQS 8040; Inductance: 100.0 µH; ComponentLink1Description: Manufacturer URL; ComponentLink1URL: http://www.we-online.com; ComponentLink2Description: Datasheet; ComponentLink2URL: http://katalog.we-online.de/pbs/datasheet/74404084101.pdf
footprint WE-LQS 8040 (SMD Power Inductor, 2-Leads, Body 8.0x8.0mm)
pins: 1, 2

## 74404084120
designator L?
WE-LQS SMD Power Inductor, L=12.0 µH; PartNumber: 74404084120; Inductance: 12.0 µH; PackageReference: WE-LQS 8040; ComponentLink1Description: Manufacturer URL; ComponentLink1URL: http://www.we-online.com; ComponentLink2Description: Datasheet; ComponentLink2URL: http://katalog.we-online.de/pbs/datasheet/74404084120.pdf
footprint WE-LQS 8040 (SMD Power Inductor, 2-Leads, Body 8.0x8.0mm)
pins: 1, 2

## 74404084150
designator L?
WE-LQS SMD Power Inductor, L=15.0 µH; PartNumber: 74404084150; Inductance: 15.0 µH; PackageReference: WE-LQS 8040; ComponentLink1Description: Manufacturer URL; ComponentLink1URL: http://www.we-online.com; ComponentLink2Description: Datasheet; ComponentLink2URL: http://katalog.we-online.de/pbs/datasheet/74404084150.pdf
footprint WE-LQS 8040 (SMD Power Inductor, 2-Leads, Body 8.0x8.0mm)
pins: 1, 2

## 74404084180
designator L?
WE-LQS SMD Power Inductor, L=18.0 µH; PartNumber: 74404084180; Inductance: 18.0 µH; PackageReference: WE-LQS 8040; ComponentLink1Description: Manufacturer URL; ComponentLink1URL: http://www.we-online.com; ComponentLink2Description: Datasheet; ComponentLink2URL: http://katalog.we-online.de/pbs/datasheet/74404084180.pdf
footprint WE-LQS 8040 (SMD Power Inductor, 2-Leads, Body 8.0x8.0mm)
pins: 1, 2

## 74404084220
designator L?
WE-LQS SMD Power Inductor, L=22.0 µH; PartNumber: 74404084220; Inductance: 22.0 µH; PackageReference: WE-LQS 8040; ComponentLink1Description: Manufacturer URL; ComponentLink1URL: http://www.we-online.com; ComponentLink2Description: Datasheet; ComponentLink2URL: http://katalog.we-online.de/pbs/datasheet/74404084220.pdf
footprint WE-LQS 8040 (SMD Power Inductor, 2-Leads, Body 8.0x8.0mm)
pins: 1, 2

## 74404084330
designator L?
WE-LQS SMD Power Inductor, L=33.0 µH; PartNumber: 74404084330; Inductance: 33.0 µH; PackageReference: WE-LQS 8040; ComponentLink1Description: Manufacturer URL; ComponentLink1URL: http://www.we-online.com; ComponentLink2Description: Datasheet; ComponentLink2URL: http://katalog.we-online.de/pbs/datasheet/74404084330.pdf
footprint WE-LQS 8040 (SMD Power Inductor, 2-Leads, Body 8.0x8.0mm)
pins: 1, 2

## 74404084470
designator L?
WE-LQS SMD Power Inductor, L=47.0 µH; PartNumber: 74404084470; Inductance: 47.0 µH; PackageReference: WE-LQS 8040; ComponentLink1Description: Manufacturer URL; ComponentLink1URL: http://www.we-online.com; ComponentLink2Description: Datasheet; ComponentLink2URL: http://katalog.we-online.de/pbs/datasheet/74404084470.pdf
footprint WE-LQS 8040 (SMD Power Inductor, 2-Leads, Body 8.0x8.0mm)
pins: 1, 2

## 74404084680
designator L?
WE-LQS SMD Power Inductor, L=68.0 µH; PartNumber: 74404084680; Inductance: 68.0 µH; PackageReference: WE-LQS 8040; ComponentLink1Description: Manufacturer URL; ComponentLink1URL: http://www.we-online.com; ComponentLink2Description: Datasheet; ComponentLink2URL: http://katalog.we-online.de/pbs/datasheet/74404084680.pdf
footprint WE-LQS 8040 (SMD Power Inductor, 2-Leads, Body 8.0x8.0mm)
pins: 1, 2

## 744040240022
designator L?
WE-LQS SMD Power Inductor, L=2.2 µH; PartNumber: 744040240022; Inductance: 2.2 µH; PackageReference: WE-LQS 252012; ComponentLink1Description: Manufacturer URL; ComponentLink1URL: http://www.we-online.com; ComponentLink2Description: Datasheet; ComponentLink2URL: http://katalog.we-online.de/pbs/datasheet/74404024022.pdf
footprint WE-LQS 252012 (SMD Power Inductor, 2-Leads, Body 2.5x2.0mm)
pins: 1, 2

## 744040240047
designator L?
WE-LQS SMD Power Inductor, L=0.47 µH; PartNumber: 744040240047; Inductance: 0.47 µH; PackageReference: WE-LQS 252012; ComponentLink1Description: Manufacturer URL; ComponentLink1URL: http://www.we-online.com; ComponentLink2Description: Datasheet; ComponentLink2URL: http://katalog.we-online.de/pbs/datasheet/744040240047.pdf
footprint WE-LQS 252012 (SMD Power Inductor, 2-Leads, Body 2.5x2.0mm)
pins: 1, 2

## 744040240068
designator L?
WE-LQS SMD Power Inductor, L=0.68 µH; PartNumber: 744040240068; Inductance: 0.68 µH; PackageReference: WE-LQS 252012; ComponentLink1Description: Manufacturer URL; ComponentLink1URL: http://www.we-online.com; ComponentLink2Description: Datasheet; ComponentLink2URL: http://katalog.we-online.de/pbs/datasheet/744040240068.pdf
footprint WE-LQS 252012 (SMD Power Inductor, 2-Leads, Body 2.5x2.0mm)
pins: 1, 2

## 744040320047
designator L?
WE-LQS SMD Power Inductor, L=0.47; PartNumber: 744040320047; Inductance: 0.47 µH; PackageReference: WE-LQS 3015; ComponentLink1Description: Manufacturer URL; ComponentLink1URL: http://www.we-online.com; ComponentLink2Description: Datasheet; ComponentLink2URL: http://katalog.we-online.de/pbs/datasheet/744040320047.pdf
footprint WE-LQS 3015 (SMD Power Inductor, 2-Leads, Body 3.0x3.0mm)
pins: 1, 2

## 744040540022
designator L?
WE-LQS SMD Power Inductor, L=2.2 µH; PartNumber: 744040540022; Inductance: 2.2 µH; PackageReference: WE-LQS 5040; ComponentLink1Description: Manufacturer URL; ComponentLink1URL: http://www.we-online.com; ComponentLink2Description: Datasheet; ComponentLink2URL: http://katalog.we-online.de/pbs/datasheet/74404054022.pdf
footprint WE-LQS 5040 (SMD Power Inductor, 2-Leads, Body 5.0x5.0mm)
pins: 1, 2

## 744040630022
designator L?
WE-LQS SMD Power Inductor, L=2.2 µH; PartNumber: 744040630022; Inductance: 2.2 µH; PackageReference: WE-LQS 6028; ComponentLink1Description: Manufacturer URL; ComponentLink1URL: http://www.we-online.com; ComponentLink2Description: Datasheet; ComponentLink2URL: http://katalog.we-online.de/pbs/datasheet/74404063022.pdf
footprint WE-LQS 6028 (SMD Power Inductor, 2-Leads, Body 6.0x6.0mm)
pins: 1, 2

## 744040640022
designator L?
WE-LQS SMD Power Inductor, L=2.2 µH; PartNumber: 744040640022; Inductance: 2.2 µH; PackageReference: WE-LQS 6045; ComponentLink1Description: Manufacturer URL; ComponentLink1URL: http://www.we-online.com; ComponentLink2Description: Datasheet; ComponentLink2URL: http://katalog.we-online.de/pbs/datasheet/74404064022.pdf
footprint WE-LQS 6045 (SMD Power Inductor, 2-Leads, Body 6.0x6.0mm)
pins: 1, 2

## 744040840022
designator L?
WE-LQS SMD Power Inductor, L=2.2 µH; PartNumber: 744040840022; Inductance: 2.2 µH; PackageReference: WE-LQS 8040; ComponentLink1Description: Manufacturer URL; ComponentLink1URL: http://www.we-online.com; ComponentLink2Description: Datasheet; ComponentLink2URL: http://katalog.we-online.de/pbs/datasheet/74404084022.pdf
footprint WE-LQS 8040 (SMD Power Inductor, 2-Leads, Body 8.0x8.0mm)
pins: 1, 2